# EAGLE library part BME280 (library BME280_Mine)
BOSCH BME280, Datasheet: https://ae-bst.resource.bosch.com/media/_tech/media/datasheets/BST-BME280-DS002.pdf DIGITAL HUMIDITY, PRESSURE AND TEMPERATURE SENSOR * Digital interface I²C (up to 3.4 MHz) and SPI (3 and 4 wire, up to 10 MHz)* Supply voltage VDD main supply voltage range: 1.71 V to 3.6 V*VDDIO interface voltage range: 1.2 V to 3.6 V Operating range -40…+85 °C, 0…100 % rel. humidity, 300…1100 hPa
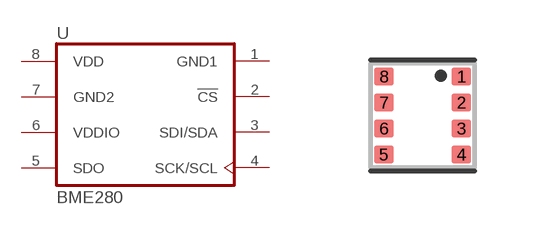
[diagram p0: symbol with the pads of LGA8; footprint LGA8]

Designator prefix U

## BME280 (AVAILABILITY: Unavailable; DESCRIPTION: Integrated pressure, humidity and temperature sensor; 8-pin 2.5x2.5x0.93mm LGA; MF: Bosch; MP: BME280; PACKAGE: LGA-8 Bosch; PRICE: None)  [LGA8]
1  GND1
2  !CS
3  SDI/SDA
4  SCK/SCL  in
5  SDO
6  VDDIO  pwr
7  GND2
8  VDD  pwr

## Footprint LGA8 (pad centres in mm)
2.5 mm x 2.5 mm x 0.93 mm metal lid LGA
smd 0.49 x 0.45: 1 0.97,0.975; 2 0.97,0.325; 3 0.97,-0.325; 4 0.97,-0.975; 5 -0.97,-0.975; 6 -0.97,-0.325; 7 -0.97,0.325; 8 -0.97,0.975